# Altium footprint library VGA Port.PcbLib: 3 footprints
Each footprint in its own frame and in the unit in brackets; x right, y up, seen from the top. Pads: shape width x height; smd on the part's side, far side on the other; paste and mask are expansions set on the pad; w line width, h text height; cw(c..) or ccw(c..) is an arc to the next point about the centre after c.
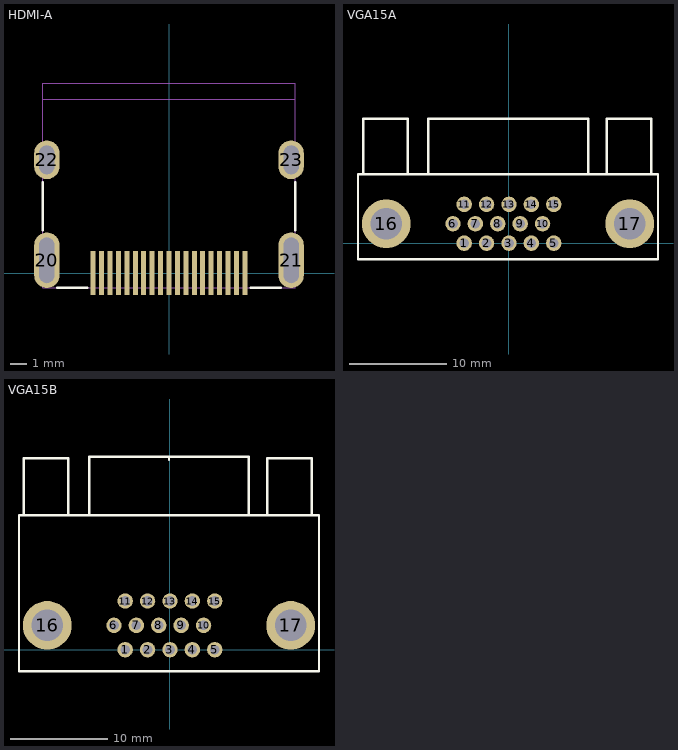
[diagram p0: the footprints below, top view; thin cyan lines are the x and y axes]

## HDMI-A [mm]
pads (23):
  rect 0.3x2.6 smd mask+0.051: 1(-4.5,0) 2(-4,0) 3(-3.5,0) 4(-3,0) 5(-2.5,0) 6(-2,0) 7(-1.5,0) 8(-1,0) 9(-0.5,0) 10(0,0) 11(0.5,0) 12(1,0) 13(1.5,0) 14(2,0) 15(2.5,0) 16(3,0) 17(3.5,0) 18(4,0) 19(4.5,0)
  rrect100% 1.5x3.3 hole 0.9 slot 2.7 at 90 deg mask+0.051: 20(-7.25,0.76) 21(7.25,0.76)
  rrect100% 1.5x2.3 hole 0.9 slot 1.7 at 90 deg mask+0.051: 22(-7.25,6.72) 23(7.25,6.72)
Top Overlay:
  lines w0.15: -7.5,2.55 -7.5,5.4 ; -6.64,-0.87 -4.86,-0.87 ; 4.86,-0.87 6.64,-0.87 ; 7.5,2.55 7.5,5.4
Mechanical 1:
  lines w0.05: -7.5,10.31 7.5,10.31 ; -7.5,-0.87 7.5,-0.87 7.5,11.275 -7.5,11.275 -7.5,-0.87
3D body "471510001.stp": height 6.2, standoff -2.18, extent -7.5,-0.875 7.5,11.275

## VGA15A [mm] "15��ͨѶ�ӿ�"
pads (17):
  round 1.58 hole 1: 1(-4.6,0) 2(-2.3,0) 3(0,0) 4(2.3,0) 5(4.6,0) 6(-5.75,1.992) 7(-3.45,1.992) 8(-1.15,1.992) 9(1.15,1.992) 10(3.45,1.992) 11(-4.6,3.984) 12(-2.3,3.984) 13(0,3.984) 14(2.3,3.984) 15(4.6,3.984)
  round 5 hole 3.25: 16(-12.6,1.992) 17(12.4,1.992)
Top Overlay:
  lines w0.254: -14.975,7.061 -14.975,12.751 -10.405,12.751 -10.405,7.061 ; -8.275,7.137 -8.275,12.751 8.125,12.751 8.125,7.061 ; 10.025,7.087 10.025,12.751 14.605,12.751 14.605,7.087 ; -15.5,-1.629 -15.5,7.061 15.3,7.061 15.3,-1.629 -15.5,-1.629
3D body "User Library-SLIM D-SUB RIGHT ANGLE PCB MOUNT.step": height 10.25, standoff -3.09, extent -15.403,-1.075 15.397,12.395

## VGA15B [mm] "15��ͨѶ�ӿ�"
pads (17):
  round 1.58 hole 1: 1(-4.6,0) 2(-2.3,0) 3(0,0) 4(2.3,0) 5(4.6,0) 6(-5.75,2.5) 7(-3.45,2.5) 8(-1.15,2.5) 9(1.15,2.5) 10(3.45,2.5) 11(-4.6,5) 12(-2.3,5) 13(0,5) 14(2.3,5) 15(4.6,5)
  round 5 hole 3.25: 16(-12.6,2.5) 17(12.4,2.5)
Top Overlay:
  lines w0.254: -15.5,-2.2 -15.5,13.8 15.3,13.8 15.3,-2.2 -15.49,-2.2 -15.5,-2.19 ; -15,13.8 -15,19.67 -10.43,19.67 -10.43,13.82 ; -8.3,13.8 -8.3,19.8 8.1,19.8 8.1,13.8 ; -0.1,19.5 -0.1,19.8 ; 10,13.8 10,19.68 14.58,19.68 14.58,13.84
3D body "SW3dPS-Connector, D-Sub, 15 pin HD, RA, Receptacle.STEP": height 12.77, standoff -3.27, extent -15.655,-0.875 15.155,20.225